# Altium schematic symbol library General.SchLib: 76 symbols
Pins are listed as number, name and electrical type; pins without a type are passive.

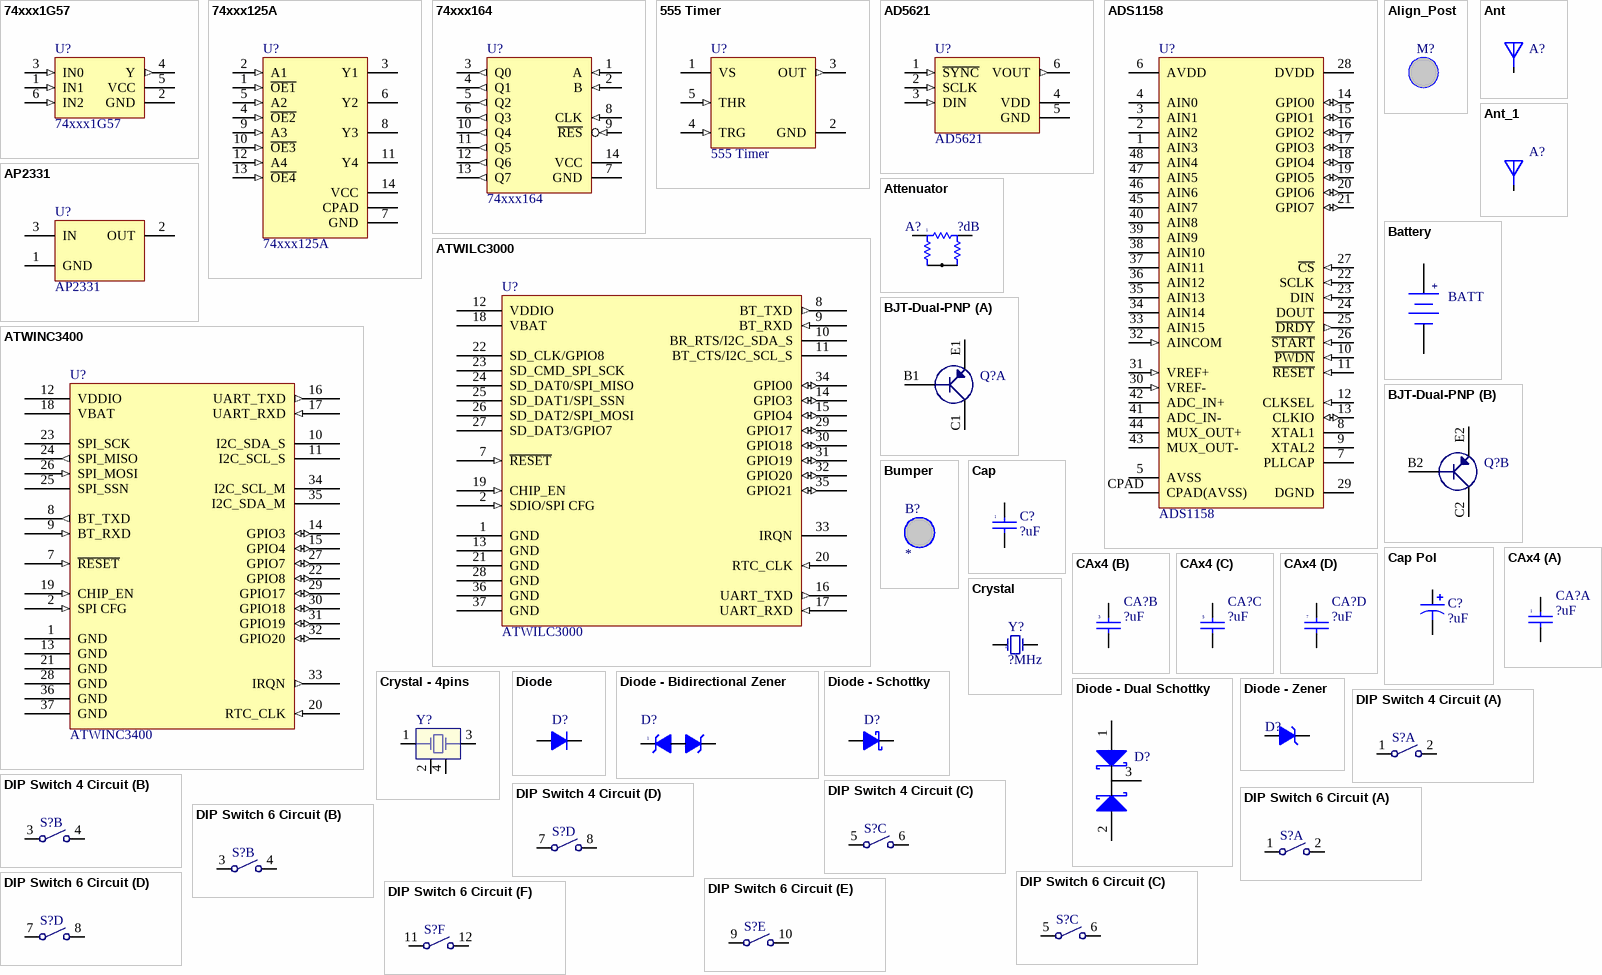
[diagram p0: symbols 74xxx1G57 to DIP Switch 6 Circuit]

## 74xxx1G57
designator U?
Multi Function Gate; Manufacturer: Texas Instruments; Manufacturer Part Number: SN74LVC1G57DCKR; Logic Type: Configurable Multiple Function; Number of Circuits: 1; Number of Inputs: 3; Schmitt Trigger Input: Yes; Output Type: Single-Ended; Current - Output High, Low: 32mA, 32mA; Voltage - Supply: 1.65 V ~ 5.5 V; Supplier 1: Digi-Key; Supplier Part Number 1: 296-15575-1-ND; RoHS: RoHS Compliant; Category: Integrated Circuits (ICs); Stock 1: 0; Pricing 1: 1=0.44, 25=0.2852, 100=0.234, 250=0.195, 500=0.162, 1000=0.12 (USD); Operating Temperature: -40°C ~ 85°C; Mounting Type: Surface Mount; Package / Case: SC-70-6, SC-88, SOT-323-6, SOT-363; Packaging: Cut Tape (CT); ComponentLink1URL: http://focus.ti.com/lit/ds/symlink/sn74lvc1g57.pdf; ComponentLink1Description: http://focus.ti.com/lit/ds/symlink/sn74lvc1g57.pdf
footprint SC-70-6
pins: 1 IN1 (in), 2 GND (power), 3 IN0 (in), 4 Y (out), 5 VCC (power), 6 IN2 (in)

## 74xxx125A
designator U?
Quad Tri-State Line Buffer; Manufacturer: NXP Semiconductors; Manufacturer Part Number: 74LVC125ABQ,115; Logic Type: Buffer/Line Driver, Non-Inverting; Number of Elements: 4 - Quad; Number of Bits per Element: 1; Current - Output High, Low: 24mA, 24mA; Voltage - Supply: 2.7 V ~ 3.6 V; Supplier 1: Digi-Key; Supplier Part Number 1: 568-2995-1-ND; RoHS: RoHS Compliant; Category: Integrated Circuits (ICs); Stock 1: 3768; Pricing 1: 1=0.94, 25=0.7076, 100=0.5306, 250=0.39144, 500=0.33012, 1000=0.31361 (USD); Operating Temperature: -40°C ~ 125°C; Mounting Type: Surface Mount; Package / Case: 14-DHVQFN; Packaging: Cut Tape (CT); ComponentLink1URL: http://www.nxp.com/documents/data_sheet/74LVC125A.pdf; ComponentLink1Description: http://www.nxp.com/documents/data_sheet/74LVC125A.pdf
footprint DHVQFN-14
pins: 1 ~{OE1} (in), 2 A1 (in), 3 Y1 (hiz), 4 ~{OE2} (in), 5 A2 (in), 6 Y2 (hiz), 7 GND (power), 8 Y3 (hiz), 9 A3 (in), 10 ~{OE3} (in), 11 Y4 (hiz), 12 A4 (in), 13 ~{OE4} (in), 14 VCC (power), CPAD (power)

## 74xxx164
designator U?
8 Bit Shift Register; Manufacturer: NXP Semiconductors; Manufacturer Part Number: 74HCT164BQ,115; Output Type: Standard; Number of Elements: 1 - Single; Number of Bits per Element: 8; Function: Serial to Parallel; Voltage - Supply: 4.5 V ~ 6 V; Supplier 1: Digi-Key; Supplier Part Number 1: 568-2790-1-ND; RoHS: RoHS Compliant; Category: Integrated Circuits (ICs); Stock 1: 2604; Pricing 1: 1=0.56, 25=0.42, 100=0.315, 250=0.2324, 500=0.196, 1000=0.1862 (USD); Logic Type: Shift Register; Operating Temperature: -40°C ~ 125°C; Mounting Type: Surface Mount; Package / Case: 14-DHVQFN; Packaging: Cut Tape (CT); ComponentLink1URL: http://www.nxp.com/documents/data_sheet/74HC_HCT164.pdf; ComponentLink1Description: http://www.nxp.com/documents/data_sheet/74HC_HCT164.pdf
footprint DHVQFN-14
pins: 1 A (in), 2 B (in), 3 Q0 (out), 4 Q1 (out), 5 Q2 (out), 6 Q3 (out), 7 GND (power), 8 CLK (in), 9 ~{RES} (in), 10 Q4 (out), 11 Q5 (out), 12 Q6 (out), 13 Q7 (out), 14 VCC (power)

## 555 Timer
designator U?
footprint SOT-23-5
pins: 1 VS (power), 2 GND (power), 3 OUT (out), 4 TRG (in), 5 THR (in)

## AD5621
designator U?
12bit DAC; Manufacturer: Analog Devices Inc; Manufacturer Part Number: AD5621AKSZ-REEL7; Settling Time: 6µs; Number of Bits: 12; Data Interface: SPI™; Number of Converters: 1; Voltage Supply Source: Single Supply; Power Dissipation (Max): 0.5mW; Number of Outputs and Type: 1 Voltage, Unipolar; 1 Voltage, Bipolar; Supplier 1: Digi-Key; Supplier Part Number 1: AD5621AKSZ-REEL7CT-ND; RoHS: RoHS Compliant; Category: Integrated Circuits (ICs); Stock 1: 2370; Pricing 1: 1=2.95, 25=2.358, 100=1.834, 250=1.74232, 500=1.703, 1000=1.67025 (USD); Operating Temperature: -40°C ~ 125°C; Package / Case: SC-70-6, SC-88, SOT-323-6, SOT-363; Packaging: Cut Tape (CT); ComponentLink1URL: http://www.analog.com/static/imported-files/data_sheets/AD5601_5611_5621.pdf; ComponentLink1Description: http://www.analog.com/static/imported-files/data_sheets/AD5601_5611_5621.pdf
footprint SC-70-6
pins: 1 ~{SYNC} (in), 2 SCLK (in), 3 DIN (in), 4 VDD (power), 5 GND (power), 6 VOUT (out)

## ADS1158
designator U?
Analog Devices ADC 16/24bit; Manufacturer: Texas Instruments; Manufacturer Part Number: ADS1158IRTCT; Number of Bits: 16; Sampling Rate (Per Second): 125k; Data Interface: Serial; Number of Converters: 1; Power Dissipation (Max): 62mW; Voltage Supply Source: Analog and Digital, Dual ±; Number of Inputs and Type: 16 Single-Ended, Unipolar; 16 Single-Ended, Bipolar; 8 Differential, Unipolar; 8 Differential, Bipolar; Supplier 1: Digi-Key; Supplier Part Number 1: 296-23494-1-ND; RoHS: RoHS Compliant; Category: Integrated Circuits (ICs); Stock 1: 184; Pricing 1: 1=15.07, 25=12.7724, 100=11.79 (USD); Operating Temperature: -40°C ~ 105°C; Package / Case: 48-VQFN; Packaging: Cut Tape (CT); ComponentLink1URL: http://focus.ti.com/lit/ds/symlink/ads1158.pdf; ComponentLink1Description: http://focus.ti.com/lit/ds/symlink/ads1158.pdf
footprint QFN-48
pins: 1 AIN3, 2 AIN2, 3 AIN1, 4 AIN0, 5 AVSS (power), 6 AVDD (power), 7 PLLCAP, 8 XTAL1, 9 XTAL2, 10 ~{PWDN} (in), 11 ~{RESET} (in), 12 CLKSEL (in), 13 CLKIO (io), 14 GPIO0 (io), 15 GPIO1 (io), 16 GPIO2 (io), 17 GPIO3 (io), 18 GPIO4 (io), 19 GPIO5 (io), 20 GPIO6 (io), 21 GPIO7 (io), 22 SCLK (in), 23 DIN (in), 24 DOUT, 25 ~{DRDY} (out), 26 ~{START} (in), 27 ~{CS} (in), 28 DVDD (power), 29 DGND (power), 30 VREF- (in), 31 VREF+ (in), 32 AINCOM (in), 33 AIN15, 34 AIN14, 35 AIN13, 36 AIN12, 37 AIN11, 38 AIN10, 39 AIN9, 40 AIN8, 41 ADC_IN-, 42 ADC_IN+, 43 MUX_OUT-, 44 MUX_OUT+, 45 AIN7, 46 AIN6, 47 AIN5, 48 AIN4, CPAD CPAD(AVSS) (power)

## Align_Post
designator M?  (value not drawn)
Alignment Post; Supplier Part Number 1: ?; Supplier 1: ?
footprint Align Post 31.25mil dia (Aignment Post 31.25mil dia.)

## Ant
designator A?  (value not drawn)
Manufacturer Part Number 1: KSA-ST1580MS25B; Manufacturer 1: Sangshin; Supplier Part Number 1: KSA-ST1580MS25B; Supplier 1: RFMW; Supplier Unit Price 1: 10
footprint KSA-ST1580MS25B (25mm 1580MHz 5dBi GPS patch antenna)
pins: 1

## Ant_1
designator A?  (value not drawn)
Sarantel; Manufacturer Part Number 1: GeoHelix-S; Supplier 1: Jim Gray; Manufacturer 1: Sarantel; Supplier Part Number 1: GeoHelix-S; Supplier Unit Price 1: 25
footprint GeoHelix-S (Sarantel GPS antenna); pin to pad 1>RF_OUT
pins: 1, GND1 (power) hidden to GND "GND", GND2 (power) hidden to GND "GND", GND3 (power) hidden to GND "GND", GND4 (power) hidden to GND "GND"

## AP2331
designator U?
footprint SOT-23
pins: 1 GND (power), 2 OUT (power), 3 IN (power)

## Attenuator
designator A?  value ?dB  (hidden comment: Attenuator)
footprint A0805 (Attenuator SMT, 4 PIN)
pins: 1, 2, 3

## ATWILC3000
designator U?
footprint ATWILC3000 (IEEE 802.11 b/g/n 20MHz (1x1) Wi-Fi plus Bluetooth 5 Low Energy Module)
pins: 1 GND (power), 2 SDIO/SPI CFG (in), 7 ~{RESET} (in), 8 BT_TXD (out), 9 BT_RXD (in), 10 BR_RTS/I2C_SDA_S, 11 BT_CTS/I2C_SCL_S, 12 VDDIO (power), 13 GND (power), 14 GPIO3 (io), 15 GPIO4 (io), 16 UART_TXD (out), 17 UART_RXD (in), 18 VBAT (power), 19 CHIP_EN (in), 20 RTC_CLK (in), 21 GND (power), 22 SD_CLK/GPIO8, 23 SD_CMD_SPI_SCK, 24 SD_DAT0/SPI_MISO, 25 SD_DAT1/SPI_SSN, 26 SD_DAT2/SPI_MOSI, 27 SD_DAT3/GPIO7, 28 GND (power), 29 GPIO17 (io), 30 GPIO18 (io), 31 GPIO19 (io), 32 GPIO20 (io), 33 IRQN, 34 GPIO0 (io), 35 GPIO21 (io), 36 GND (power), 37 GND (power)

## ATWINC3400
designator U?
footprint ATWILC3000 (IEEE 802.11 b/g/n 20MHz (1x1) Wi-Fi plus Bluetooth 5 Low Energy Module)
pins: 1 GND (power), 2 SPI CFG (in), 7 ~{RESET} (in), 8 BT_TXD (out), 9 BT_RXD (in), 10 I2C_SDA_S, 11 I2C_SCL_S, 12 VDDIO (power), 13 GND (power), 14 GPIO3 (io), 15 GPIO4 (io), 16 UART_TXD (out), 17 UART_RXD (in), 18 VBAT (power), 19 CHIP_EN (in), 20 RTC_CLK (in), 21 GND (power), 22 GPIO8 (io), 23 SPI_SCK, 24 SPI_MISO (out), 25 SPI_SSN, 26 SPI_MOSI (in), 27 GPIO7 (io), 28 GND (power), 29 GPIO17 (io), 30 GPIO18 (io), 31 GPIO19 (io), 32 GPIO20 (io), 33 IRQN (out), 34 I2C_SCL_M, 35 I2C_SDA_M, 36 GND (power), 37 GND (power)

## Battery
designator BATT  (value not drawn)
Manufacturer: Panasonic - BSG; Manufacturer Part Number: ML-614S/FN; Battery Cell Size: Coin 6.8mm; Voltage - Rated: 3V; Capacity: 3.4mAh; Rechargeability: Yes; Shipping Info: Due to possible restrictions, a change in ship method may be required.; Supplier 1: Digi-Key; RoHS: RoHS compliant by exemption; Category: Batteries; Stock 1: 13664; Pricing 1: 1=2.03, 10=1.823, 50=1.62, 100=1.4175, 250=1.296, 500=1.215, 1000=1.11375, 2500=1.03275, 5000=1.0125 (USD); Termination Style: Surface Mount (SMD,SMT); Size / Dimension: 0.27" Dia x 0.06" H (6.8mm x 1.5mm); ComponentLink1URL: http://www.panasonic.com/industrial/battery/oem/images/pdf/Panasonic_Lithium_ML612S_ML614S.pdf; ComponentLink1Description: http://www.panasonic.com/industrial/battery/oem/images/pdf/Panasonic_Lithium_ML612S_ML614S.pdf; Supplier Part Number 1: P297-ND
footprint ML614S (3.3V Coin Cell Battery)
footprint MS621FE
pins: +, -

## BJT-Dual-PNP
designator Q?  (value not drawn)
footprint SOT-26 (SOT26, 6-Leads, Body 3.00x2.85mm, Pitch 0.95mm, IPC Medium Density); pin to pad B1>2 B2>5 C1>6 C2>3 E1>1 E2>4
footprint SOT-666 (SOTFL, 6-Leads, Body 1.60x1.60mm, Pitch 0.50mm, IPC Medium Density); pin to pad B1>2 B2>5 C1>6 C2>3 E1>1 E2>4
part A pins: B1, C1, E1
part B pins: B2, C2, E2

## Bumper
designator B?
footprint Poly Bumper - 5/16" Dia., 7/64" Tall

## Cap
designator C?  value ?uF
Capacitor; Published: 8-Jun-2000; LatestRevisionDate: 17-Jul-2002; LatestRevisionNote: Re-released for DXP Platform.; Publisher: Altium Limited; Category: Capacitors
simulation model CAP (Capacitor)
signal-integrity model Cap
footprint 0201
footprint 0402
footprint 0603
footprint 0805
footprint 1206
footprint 1812
pins: 1, 2

## Cap Pol
designator C?  value ?uF  (hidden comment: Cap Pol)
Polarized Capacitor
simulation model CAP (Capacitor)
signal-integrity model Cap Pol
footprint EIA-3216; pin to pad 1>POS 2>NEG
footprint EIA-6032; pin to pad 1>POS 2>NEG
pins: 1, 2
1 alternate drawing of the same symbol

## CAx4
designator CA?  value ?uF
Capacitor; Published: 8-Jun-2000; LatestRevisionDate: 17-Jul-2002; LatestRevisionNote: Re-released for DXP Platform.; Publisher: Altium Limited; Category: Capacitors
simulation model CAP (Capacitor)
signal-integrity model Cap
footprint SOJ50P120X60-8N (SOJ, 8-Leads, Body 2.0x1.3mm (max), Pitch 0.50mm, IPC Medium Density)
part A pins: 1, 2
part B pins: 3, 4
part C pins: 5, 6
part D pins: 7, 8

## Crystal
designator Y?  value ?MHz  (hidden comment: *)
Crystal
footprint 3.2mmx1.5mm
footprint ECX-64A; pin to pad 1>P$1 2>P$2
footprint CRYMP2012X06L (Molded Crystal, 2-Leads, Body 2.00x1.20mm, IPC High Density)
footprint DFN90P160X50-2N (DFN, 2-Leads, Body 1.00x1.60mm, Pitch 0.90mm, IPC Medium Density)
pins: 1, 2

## Crystal - 4pins
designator Y?  (value not drawn)
footprint AMB11_2.0x1.6 (QFN, 8-Leads, Body 2.00x1.60mm, Pitch 0.50mm, Thermal Pad 0.15x1.60mm, IPC High Density)
footprint CRYSTAL_3.2_x_2.5
footprint ABM10_2.5_x_2.0 (Cristal, 4-Pins, Body 2.50x2.00mm)
pins: 1, 2, 3, 4

## Diode
designator D?  (value not drawn)
Standard Diode
footprint S-MINI-2P
simulation model DIODE (Default Diode)
footprint D0603 (Molded Diode, 2-Leads, Body 1.60x0.80mm, IPC Medium Density)
pins: A, C

## Diode - Bidirectional Zener
designator D?  (value not drawn)
Bidirectional Zener Diode
footprint R0201
footprint D0201 (DFN, 2-Leads, Body 0.30x0.60mm, Pitch 0.35mm, IPC Medium Density)
footprint D0603 (Molded Diode, 2-Leads, Body 1.60x0.80mm, IPC Medium Density)
footprint R0402
pins: 1, 2

## Diode - Dual Schottky
designator D?
Dual Schottky Diode; Supplier 1: ?; Supplier Part Number 1: ?
footprint SOT-23
footprint SOT1061X65-3N (SOT1061, 3-Leads, Body 2.1x2.3mm (max), Pitch 0.65mm, IPC Medium Density)
pins: 1 A, 2 A, 3 C

## Diode - Schottky
designator D?  (value not drawn)
Schottky Diode
footprint S-MINI-2P
footprint PowerDI-123
footprint SSS-MINI-2P
simulation model SKYDIODE (Default Diode)
footprint SOD-123 (Molded Diode, 2-Leads, Body 2.7x1.5mm, IPC Medium Density)
footprint SOD-323 (SOD-323, 2-Leads, Body 1.25x2.50mm, IPC Medium Density)
footprint D0603B (Molded Diode, 2-Leads, Body 1.60x0.80mm, IPC Medium Density)
footprint D0603
footprint D0402
footprint SOD-128 (SOD-128 FL, 2-Leads, Body 2.50x4.70mm, IPC Medium Density)
pins: A, C

## Diode - Zener
designator D?  (value not drawn)
Zener Diode
footprint SOD-123 (Molded Diode, 2-Leads, Body 2.7x1.5mm, IPC Medium Density)
pins: A, C

## DIP Switch 4 Circuit
designator S?, comment Dip Switch 4 Circuits  (value not drawn)
footprint CHS-04TA (SWITCH SLIDE DIP SPST 100MA 6V)
part A pins: 1, 2
part B pins: 3, 4
part C pins: 5, 6
part D pins: 7, 8

## DIP Switch 6 Circuit
designator S?, comment Dip Switch 6 Circuits  (value not drawn)
footprint CHS-06TA (SWITCH SLIDE DIP SPST 100MA 6V)
part A pins: 1, 2
part B pins: 3, 4
part C pins: 5, 6
part D pins: 7, 8
part E pins: 9, 10
part F pins: 11, 12

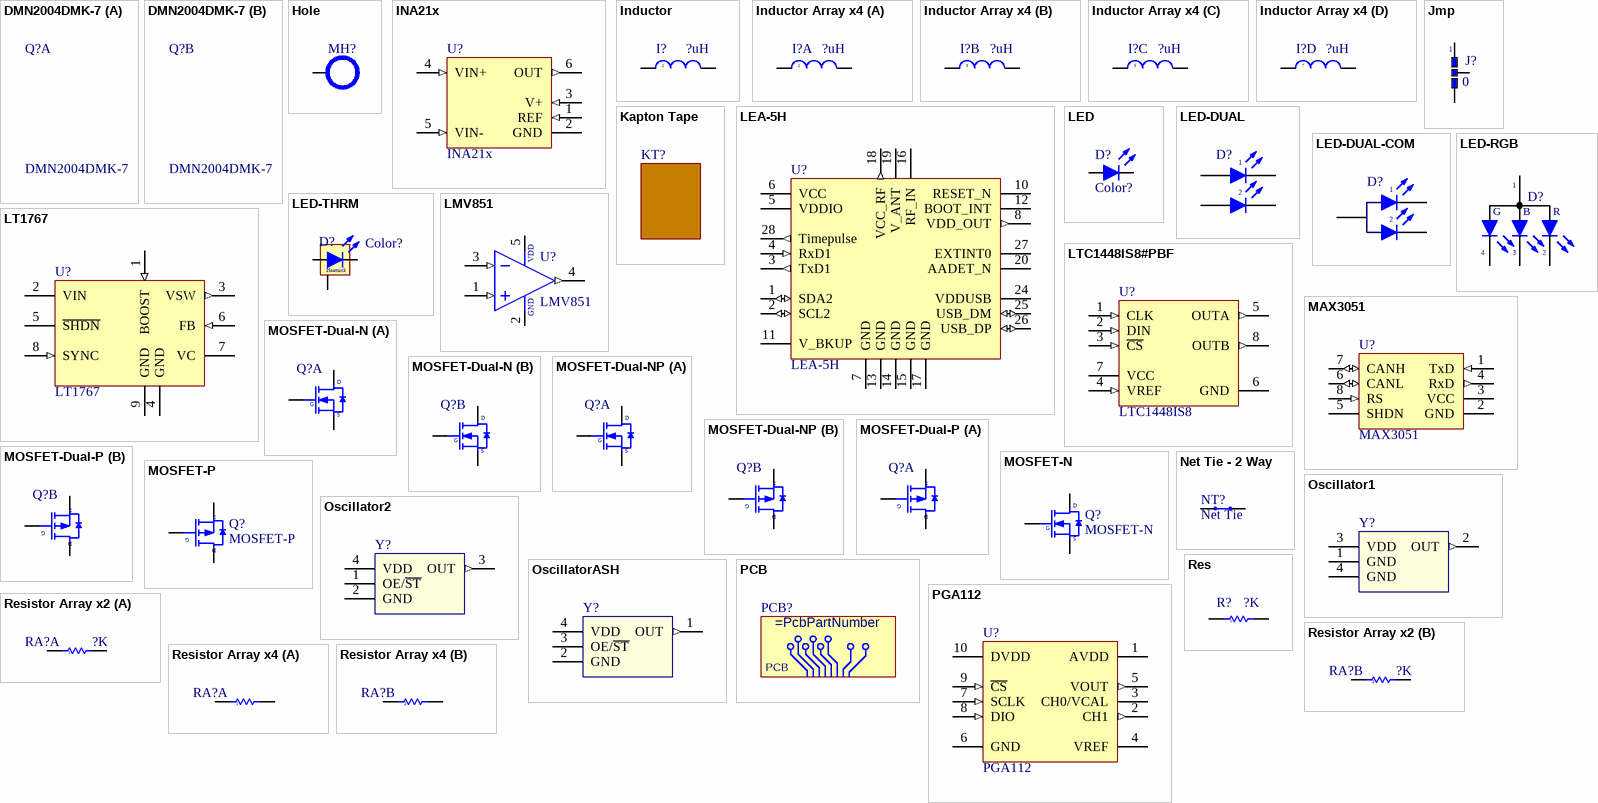
[diagram p1: symbols DMN2004DMK-7 to Resistor Array x4]

## DMN2004DMK-7
designator Q?
footprint SOT-26 (SOT26, 6-Leads, Body 3.00x2.85mm, Pitch 0.95mm, IPC Medium Density)

## Hole
designator MH?  (value not drawn)  (no BOM)
footprint Hole 120mil dia w/ standoff
footprint Hole 120mil dia
footprint Hole_2.75mm
footprint HOLE_M2.0_STAND_ 9774030243R (Solder-in M2.0 standoff, threaded.  9774030243R)
pins: 0

## INA21x
designator U?
Current Shunt Monitor
footprint SC-70-6
pins: 1 REF (in), 2 GND (power), 3 V+ (in), 4 VIN+ (in), 5 VIN- (in), 6 OUT (out)

## Inductor
designator I?  value ?uH
Inductor
footprint 5mmx5mm
footprint P1330
footprint P1812
footprint INDC3030X12N (Chip Inductor, 2-Leads, Body 3.0x3.0mm, IPC Medium Density)
footprint INDC2520X12N (Chip Inductor, 2-Leads, Body 2.5x2.0mm, IPC Medium Density)
footprint INDM102102X50N (Molded Inductor, 2-Leads, Body 10.20x10.20mm, IPC Medium Density)
footprint INDM5552X30N (Molded Inductor, 2-Leads, Body 5.49x5.18mm, IPC Medium Density)
footprint 0201
footprint 0402
footprint 0603
footprint 0805
footprint 1206
footprint 0806
footprint 1210 (Chip Capacitor, 2-Leads, Body 3.2x2.5mm, IPC Medium Density)
footprint INDP5050X22N (Precision Wire Wound Inductor, 2-Leads, Body 5.00x5.00mm, IPC Medium Density)
pins: 1, 2

## Inductor Array x4
designator I?  value ?uH
Inductor
footprint I1206_4xArray
part A pins: 1, 2
part B pins: 3, 4
part C pins: 5, 6
part D pins: 7, 8

## Jmp
designator J?  value 0
Jumper
simulation model RES (Resistor)
signal-integrity model Res
footprint J0603 (Jumper)
footprint J0402 (Jumper)
footprint J0402b (Jumper - Pos 2)
footprint J0603b (Jumper - Pos 2)
pins: 1, 2, 3

## Kapton Tape
designator KT?, comment Polyimide Tape  (value not drawn)
Polyimide Film tape
footprint KaptonSpacer_0.25mm (Kapton Tape 6.35 x 10.0 x 0.25 mm (3 layers of 0.08mm thick))

## LEA-5H
designator U?
Progr. u-blox 5 GPS Module, with KickStart; Supplier 1: uBlox; Supplier Part Number 1: LEA-5H; Supplier Unit Price 1: 119
footprint LEA-5H (uBlox GPS module)
pins: 1 SDA2 (io), 2 SCL2 (io), 3 TxD1 (out), 4 RxD1 (in), 5 VDDIO (power), 6 VCC (power), 7 GND (power), 8 VDD_OUT (out), 10 RESET_N, 11 V_BKUP, 12 BOOT_INT, 13 GND (power), 14 GND (power), 15 GND (power), 16 RF_IN, 17 GND (power), 18 VCC_RF (out), 19 V_ANT, 20 AADET_N "Active Antenna Detect", 24 VDDUSB, 25 USB_DM (io), 26 USB_DP (io), 27 EXTINT0, 28 Timepulse (out)

## LED
designator D?  value Color?  (hidden comment: LED)
footprint L0603 (LED)
footprint L1206 (LED)
simulation model LED0 (Typ INFRARED GaAs LED: Vf=1.2V Vr=5V If=40mA trr=3uS)
pins: A, C

## LED-DUAL
designator D?  (value not drawn)
Dual LED; Published: 8-Jun-2000; LatestRevisionDate: 08-Jul-2005; LatestRevisionNote: Mech Layer 1 removed.; PackageReference: LED-0; Publisher: Altium Limited
footprint LED0606
pins: 1A, 1C, 2A, 2C
text: 1; 2

## LED-DUAL-COM
designator D?, comment LED-DUAL  (value not drawn)
Dual LED; Published: 8-Jun-2000; LatestRevisionDate: 08-Jul-2005; LatestRevisionNote: Mech Layer 1 removed.; PackageReference: LED-0; Publisher: Altium Limited
footprint APBA3010SURKCGKC-GX (LED GREEN/RED CLEAR CHIP SMD R/A)
pins: 1, 2, C

## LED-RGB
designator D?  (value not drawn)
Dual LED; Published: 8-Jun-2000; LatestRevisionDate: 08-Jul-2005; LatestRevisionNote: Mech Layer 1 removed.; PackageReference: LED-0; Publisher: Altium Limited
footprint LED0404 (Multi-color 1mm x 1mm LED)
pins: 1, 2, 3, 4
text: G; B; R

## LED-THRM
designator D?  value Color?  (hidden comment: LED-THRM)
LED
simulation model LED0 (Typ INFRARED GaAs LED: Vf=1.2V Vr=5V If=40mA trr=3uS)
footprint L5x5mm (LED 5x5 mm SMD)
pins: 0, A, C
text: Heatsink

## LMV851
designator U?
Op Amp; Manufacturer: National Semiconductor; Manufacturer Part Number: LMV851MG/NOPB; Amplifier Type: General Purpose; Number of Circuits: 1; Output Type: Rail-to-Rail; Slew Rate: 4.5 V/µs; Gain Bandwidth Product: 8MHz; Current - Input Bias: 0.1pA; Voltage - Input Offset: 260µV; Current - Supply: 430µA; Current - Output / Channel: 65mA; Voltage - Supply, Single/Dual (±): 2.7 V ~ 5.5 V, ±1.35 V ~ 2.75 V; Op Amp Type: CMOS; Bandwidth: 8; Supply Voltage Range: 2.7V to 5.5; Amplifier Case Style: SC-70; No. of Pins: 5; Supplier 1: Digi-Key; Supplier Part Number 1: LMV851MGCT-ND; RoHS: RoHS Compliant; Category: Integrated Circuits (ICs); Stock 1: 870; Pricing 1: 1=1.86, 25=1.3776, 100=1.0183, 250=0.80864, 500=0.7787 (USD); -3db Bandwidth: -; Operating Temperature: -40°C ~ 125°C; Package / Case: SC-70-5, SC-88A, SOT-323-5, SOT-353, 5-TSSOP; Packaging: Cut Tape (CT); ComponentLink1URL: http://cache.national.com/ds/LM/LMV851.pdf; ComponentLink1Description: http://cache.national.com/ds/LM/LMV851.pdf; Supplier 2: Newark; Supplier Part Number 2: 64M6923; Stock 2: 456; Pricing 2: 1=1.77, 25=1.38, 100=1.02, 250=0.809, 500=0.779, 1000=0.767, 5000=0.731, 5000=0.719 (USD); No. of Amplifiers: 1; ComponentLink2URL: http://www.national.com/ds/LM/LMV851.pdf?; ComponentLink2Description: http://www.national.com/ds/LM/LMV851.pdf?
footprint SC-70-5
pins: 1 + (in), 2 GND (power), 3 - (in), 4 OUT (out), 5 VCC (power)
text: VDD

## LT1767
designator U?
Step-Down Switching Regulator
footprint MSOP-8_MS83
pins: 1 BOOST (in), 2 VIN (power), 3 VSW (out), 4 GND (power), 5 ~{SHDN}, 6 FB (in), 7 VC (power), 8 SYNC (in), 9 GND (power)

## LTC1448IS8#PBF
designator U?, comment LTC1448IS8
DAC - 12BIT R-R DUAL; Manufacturer: Linear Technology; Manufacturer Part Number: LTC1448IS8#PBF; Settling Time: 14µs; Number of Bits: 12; Data Interface: Serial; Number of Converters: 2; Voltage Supply Source: Single; Power Dissipation (Max): 2.5mW; Number of Outputs and Type: 2 Voltage, Unipolar; RoHS: RoHS Compliant; Category: Integrated Circuits (ICs); Operating Temperature: -40°C ~ 85°C; Package / Case: 8-SOIC (3.9mm Width); Packaging: Tube; ComponentLink1URL: http://www.linear.com/pc/downloadDocument.do?navId=H0,C1,C1155,C1005,C1156,P1217,D3168; ComponentLink1Description: http://www.linear.com/pc/downloadDocument.do?navId=H0,C1,C1155,C1005,C1156,P1217,D3168; Supplier 1: Digi-Key; Supplier Part Number 1: LTC1448IS8#PBF-ND; Stock 1: 195; Pricing 1: 1=13.63, 25=9.10, 100=7.45 (USD)
footprint SOIC8
pins: 1 CLK (in), 2 DIN (in), 3 ~{CS} (in), 4 VREF (in), 5 OUTA (out), 6 GND (power), 7 VCC (power), 8 OUTB (out)

## MAX3051
designator U?
Can Tranceiver; Manufacturer: Maxim Integrated Products; Manufacturer Part Number: MAX3051EKA; Number of Drivers/Receivers: 1/1; Voltage - Supply: 3.135 V ~ 3.465 V; Supplier 1: Maxim IC; Supplier Part Number 1: MAX3051EKA; RoHS: RoHS Compliant; Category: Integrated Circuits (ICs); Stock 1: 0; Pricing 1: 2500=1.411 (USD); Type: Transceiver; Protocol: CAN; Package / Case: SOT-23-8; ComponentLink1URL: http://datasheets.maxim-ic.com/en/ds/MAX3051.pdf; ComponentLink1Description: http://datasheets.maxim-ic.com/en/ds/MAX3051.pdf
footprint SOT-23-8
pins: 1 TxD (in), 2 GND (power), 3 VCC (power), 4 RxD (out), 5 SHDN, 6 CANL (io), 7 CANH (io), 8 RS (in)

## MOSFET-Dual-N
designator Q?, comment MOSFET-N  (value not drawn)
Dual N-Channel MOSFET; Value: ?
footprint SOT-363; pin to pad D1>6 D2>3 G1>2 G2>5 S1>1 S2>4
footprint SOT-26 (SOT26, 6-Leads, Body 3.00x2.85mm, Pitch 0.95mm, IPC Medium Density); pin to pad D1>6 D2>3 G1>2 G2>5 S1>1 S2>4
footprint SOT-666 (SOTFL, 6-Leads, Body 1.60x1.60mm, Pitch 0.50mm, IPC Medium Density); pin to pad D1>6 D2>3 G1>2 G2>5 S1>1 S2>4
part A pins: D1 D, G1 G, S1 S
part B pins: D2 D, G2 G, S2 S

## MOSFET-Dual-NP
designator Q?, comment MOSFET-NP  (value not drawn)
Dual N/P-Channel MOSFET
footprint SOT-363; pin to pad D1>6 D2>3 G1>2 G2>5 S1>1 S2>4
footprint SOT-666 (SOTFL, 6-Leads, Body 1.60x1.60mm, Pitch 0.50mm, IPC Medium Density); pin to pad D1>6 D2>3 G1>2 G2>5 S1>1 S2>4
part A pins: D1 D, G1 G, S1 S
part B pins: D2 D, G2 G, S2 S

## MOSFET-Dual-P
designator Q?, comment MOSFET-P  (value not drawn)
Dual P-Channel MOSFET
footprint SOT-363; pin to pad D1>6 D2>3 G1>2 G2>5 S1>1 S2>4
footprint SOT-666 (SOTFL, 6-Leads, Body 1.60x1.60mm, Pitch 0.50mm, IPC Medium Density); pin to pad D1>6 D2>3 G1>2 G2>5 S1>1 S2>4
footprint TSST8 (TSST, 8-Leads, Body 3.03x1.63mm, Pitch 0.65mm, IPC Medium Density)
part A pins: D1 D, G1 G, S1 S
part B pins: D2 D, G2 G, S2 S

## MOSFET-N
designator Q?
N-Channel MOSFET
footprint SOT-23; pin to pad D>3 G>1 S>2
simulation model NMOS (Default N-Channel MOSFET)
footprint SOT-523 (SOT523, 3-Leads, Body 1.55x1.60mm, Pitch 0.50mm, IPC Medium Density)
pins: D, G, S

## MOSFET-P
designator Q?
P-Channel MOSFET
simulation model PMOS (MOSFET-P)
footprint SOT-23; pin to pad D>3 G>1 S>2
footprint XFDFN-3 (DFN, 3-Leads, Body 0.60x0.80mm, Pitch 0.65mm, IPC Medium Density)
pins: D, G, S

## Net Tie - 2 Way
designator NT?, comment Net Tie  (net tie, no BOM)
Net Tie - 2 Way
footprint NET TIE (Net Tie)
pins: 1, 2

## Oscillator1
designator Y?  (value not drawn)
Oscillator; value: ?
footprint BGA4C65P2X2_84X154X60 (BGA, 4-Leads, Body 0.84x1.54mmx0.60mm, Pitch 0.65mm)
pins: 1 GND, 2 OUT (out), 3 VDD, 4 GND

## Oscillator2
designator Y?  (value not drawn)
Oscillator; VALUE: ?
footprint ABM10_2.5_x_2.0 (Cristal, 4-Pins, Body 2.50x2.00mm)
footprint SiT1533 (DFN, 2-Leads, Body 1.20x2.00mm, Pitch 1.50mm, IPC Medium Density)
pins: 1 OE/~{ST}, 2 GND, 3 OUT (out), 4 VDD

## OscillatorASH
designator Y?  (value not drawn)
32.768kHz XO (Standard) CMOS Oscillator 1.2 V ~ 5.5 V Enable/Disable 4-SMD, No Lead; VALUE: ?
footprint ASH7KW-32.768KHZ-L-T (Chip Array, Concave, 4-Leads, Pitch 1.50mm,  Body 1.50x3.20mm,  IPC Medium Density)
pins: 1 OUT (out), 2 GND, 3 OE/~{ST}, 4 VDD

## PCB
designator PCB?, comment Circuit Board  (value not drawn)
Printed Circuit Board; Manufacturer: Inertial Sense LLC; Supplier Unit Price 1: ?; Supplier 1: ?; Manufacturer Part Number: =PcbPartNumber
footprint PCB
footprint PCB_PART_NUMBER

## PGA112
designator U?
PGA Op Amp; Manufacturer: Texas Instruments; Manufacturer Part Number: PGA112AIDGST; Amplifier Type: Programmable Gain; Number of Circuits: 1; Output Type: Rail-to-Rail; Slew Rate: 8 V/µs; -3db Bandwidth: 10MHz; Current - Input Bias: 1.5nA; Voltage - Input Offset: 75µV; Current - Supply: 330µA; Current - Output / Channel: 60mA; Voltage - Supply, Single/Dual (±): 2.2 V ~ 5.5 V; Supplier 1: Digi-Key; Supplier Part Number 1: 296-23315-1-ND; RoHS: RoHS Compliant; Category: Integrated Circuits (ICs); Stock 1: 0; Pricing 1: 1=3.3, 25=2.6952, 100=2.42 (USD); Gain Bandwidth Product: -; Operating Temperature: -40°C ~ 125°C; Package / Case: 10-MSOP, Micro10™, 10-uMAX, 10-uSOP; Packaging: Cut Tape (CT); ComponentLink1URL: http://focus.ti.com/lit/ds/symlink/pga112.pdf; ComponentLink1Description: http://focus.ti.com/lit/ds/symlink/pga112.pdf
footprint MSOP-10
pins: 1 AVDD (power), 2 CH1 (out), 3 CH0/VCAL, 4 VREF, 5 VOUT (out), 6 GND (power), 7 SCLK (in), 8 DIO (in), 9 ~{CS} (in), 10 DVDD (power)

## Res
designator R?  value ?K
Resistor
simulation model RES (Resistor)
signal-integrity model Res
footprint R0402
footprint R0603
footprint R0805
footprint R1206
footprint R0201
pins: 1, 2

## Resistor Array x2
designator RA?  value ?K
Resistor Array - 4 Element; LatestRevisionDate: 2-Dec-2009
footprint R0402x2
part A pins: 1, 2
part B pins: 3, 4

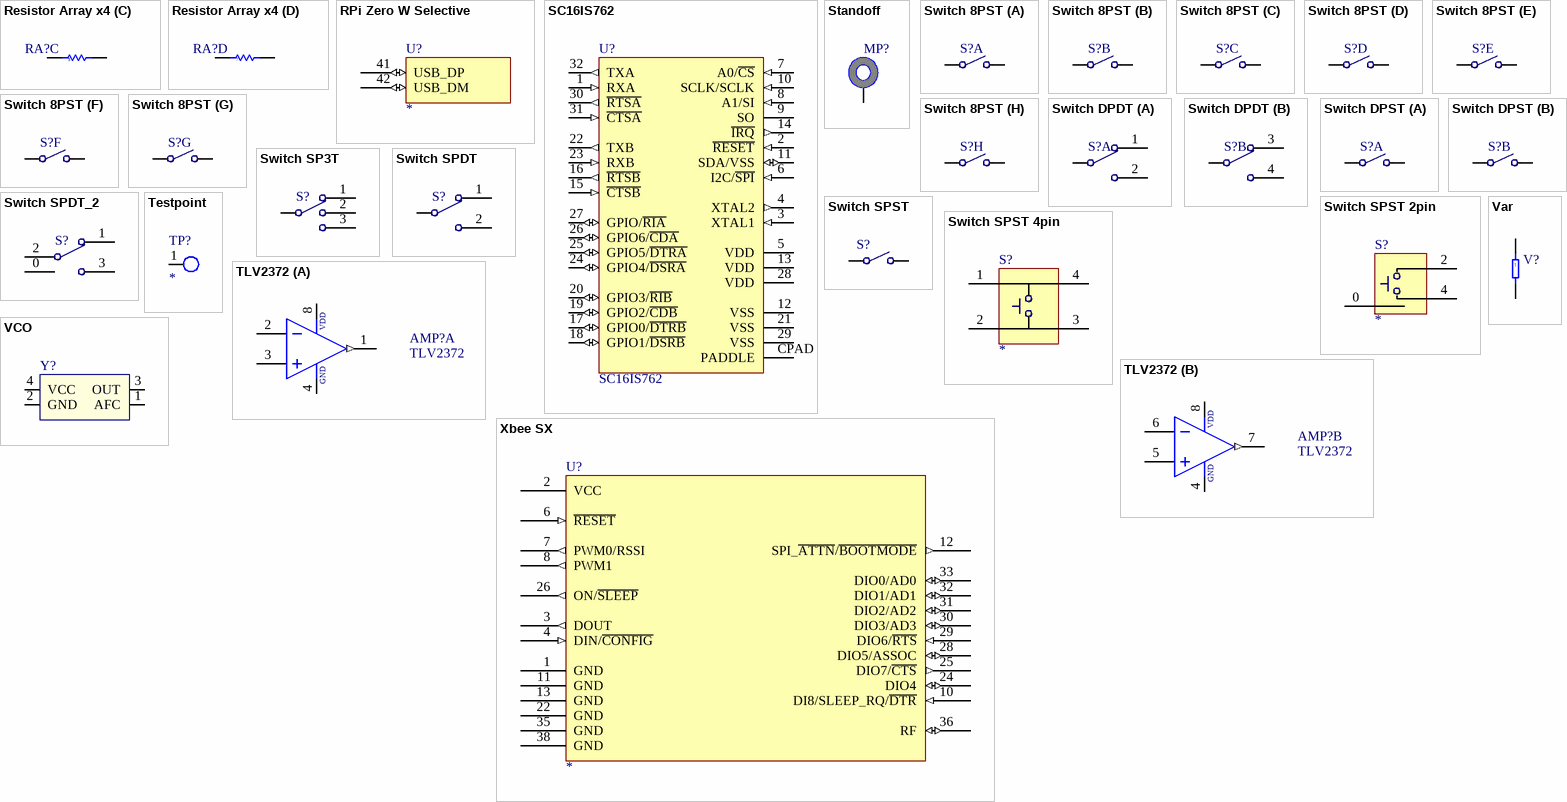
[diagram p2: symbols Resistor Array x4 to Xbee SX]

## Resistor Array x4
designator RA?
Resistor Array - 4 Element; LatestRevisionDate: 2-Dec-2009
footprint R0402x4
footprint R0201x4
part A pins: 1, 2
part B pins: 3, 4
part C pins: 5, 6
part D pins: 7, 8

## RPi Zero W Selective
designator U?
Supplier 1: Digi-Key
footprint Rpi Zero W Selective
pins: 41 USB_DP (io), 42 USB_DM (io)

## SC16IS762
designator U?
SPI 2 Port UART; Manufacturer: NXP Semiconductors; Manufacturer Part Number: SC16IS762IBS151; Number of Channels: 2; Voltage: 2.3 V ~ 3.6 V; FIFO's: 64 Byte; Supplier 1: Digi-Key; Supplier Part Number 1: 568-2240-ND; RoHS: RoHS Compliant; Category: Integrated Circuits (ICs); Stock 1: 1825; Pricing 1: 1=3.00, 25=2.80, 100=2.60, 250=2.55, 500=2.50, 1000=2.47, 5000=2.40 (USD); Features: Low Current; Package / Case: 32-HVQFN; Packaging: Tray; ComponentLink1URL: http://www.standardics.nxp.com/products/sc16/datasheet/sc16is752.sc16is762.pdf; ComponentLink1Description: http://www.standardics.nxp.com/products/sc16/datasheet/sc16is752.sc16is762.pdf
footprint QFN-32
pins: 1 RXA (in), 2 ~{RESET} (in), 3 XTAL1 (in), 4 XTAL2 (out), 5 VDD (power), 6 I2C/~{SPI} (in), 7 A0/~{CS} (in), 8 A1/SI (in), 9 SO (hiz), 10 SCLK/SCLK (in), 11 SDA/VSS (io), 12 VSS (power), 13 VDD (power), 14 ~{IRQ} (out), 15 ~{CTSB} (in), 16 ~{RTSB} (out), 17 GPIO0/~{DTRB} (io), 18 GPIO1/~{DSRB} (io), 19 GPIO2/~{CDB} (io), 20 GPIO3/~{RIB} (io), 21 VSS (power), 22 TXB (out), 23 RXB (in), 24 GPIO4/~{DSRA} (io), 25 GPIO5/~{DTRA} (io), 26 GPIO6/~{CDA} (io), 27 GPIO/~{RIA} (io), 28 VDD (power), 29 VSS (power), 30 ~{RTSA} (out), 31 ~{CTSA} (in), 32 TXA (out), CPAD PADDLE

## Standoff
designator MP?  (value not drawn)
footprint 9774050151R (SMD Standoff 3.8mm dia hole, 5mm height)
pins: 1

## Switch 8PST
designator S?, comment 8PST Switch  (value not drawn)
footprint SOIC127P670X150-16N (SOIC, 16-Leads, Body 11.38x4.50mm, Pitch 1.27mm, IPC Medium Density)
part A pins: 1, 16
part B pins: 2, 15
part C pins: 3, 14
part D pins: 4, 13
part E pins: 5, 12
part F pins: 6, 11
part G pins: 7, 10
part H pins: 8, 9

## Switch DPDT
designator S?, comment DPDT Switch  (value not drawn)
footprint GF-126-0147 (SWITCH SLIDE BRD EDGE DPDT 3A PC MNT)
part A pins: 1, 2, C1
part B pins: 3, 4, C2

## Switch DPST
designator S?, comment DPST Switch  (value not drawn)
footprint GF-126-0147 (SWITCH SLIDE BRD EDGE DPDT 3A PC MNT)
footprint CHS-02TA (SWITCH SLIDE DIP SPST 100MA 6V)
part A pins: 1, 2
part B pins: 3, 4

## Switch SP3T
designator S?, comment SP3T Switch  (value not drawn)
pins: 1, 2, 3, C

## Switch SPDT
designator S?, comment SPDT Switch  (value not drawn)
footprint GF-126-0147 (SWITCH SLIDE BRD EDGE DPDT 3A PC MNT)
pins: 1, 2, C

## Switch SPDT_2
designator S?, comment SPDT Switch  (value not drawn)
footprint 500SSP1S1M6QEA (SWITCH SLIDE SPDT)
pins: 0, 1, 2, 3

## Switch SPST
designator S?, comment SPST Switch  (value not drawn)
footprint EVQ-P3401P (SWITCH TACTILE SPST-NO 0.05A 12V)
footprint CHS-01TA
footprint KMR432G (SWITCH TACTILE SPST-NO 0.05A 32V)
footprint PTS810 (SWITCH TACTILE SPST-NO 0.05A 32V)
pins: 1, 2

## Switch SPST 2pin
designator S?
footprint 5.85x4.38mmTactileSwitch_RA (SOJ, 2-Leads, Body 5.85x4.38mm, Pitch 2.54mm, Right Angle)
pins: 0, 2, 4

## Switch SPST 4pin
designator S?
footprint 6.2x6.2mmTactileSwitch (SOJ, 4-Leads, Body 6.20x6.80mm, Pitch 4.00mm, IPC Medium Density)
pins: 1, 2, 3, 4

## Testpoint
designator TP?
footprint S1751-46R
pins: 1

## TLV2372
designator AMP?
Op Amp; Manufacturer: Texas Instruments; Manufacturer Part Number: TLV2372IDGKR; Amplifier Type: General Purpose; Number of Circuits: 2; Output Type: Rail-to-Rail; Slew Rate: 2.1 V/µs; Gain Bandwidth Product: 3MHz; Current - Input Bias: 1pA; Voltage - Input Offset: 2000µV; Current - Supply: 750µA; Current - Output / Channel: 16mA; Voltage - Supply, Single/Dual (±): 2.7 V ~ 16 V, ±1.35 V ~ 8 V; Published: 8-Jun-2000; LatestRevisionDate: 17-Jul-2002; DatasheetVersion: REV. B; Publisher: Altium Limited; Supplier 1: Digi-Key; Supplier Part Number 1: 296-11623-1-ND; RoHS: RoHS Compliant; Category: Integrated Circuits (ICs); Stock 1: 6238; Pricing 1: 1=1.25, 25=1.00, 100=0.75, 250=0.70, 500=0.675, 1000=0.65 (USD); -3db Bandwidth: -; Operating Temperature: -40°C ~ 125°C; Package / Case: 8-MSOP; Packaging: Cut Tape (CT); ComponentLink1URL: http://focus.ti.com/lit/ds/symlink/tlv2370.pdf; ComponentLink1Description: http://focus.ti.com/lit/ds/symlink/tlv2370.pdf
footprint MSOP-8
pins on every part: 4 GND (power), 8 VCC (power)
part A pins: 1 OUT (out), 2 -, 3 +
part B pins: 5 +, 6 -, 7 OUT (out)
part A text: VDD
part B text: VDD

## Var
designator V?  (value not drawn)
TVS - Varistor, MOVs
footprint R0603
footprint R0402
footprint R0805
footprint R1206
footprint R0201
pins: 1, 2

## VCO
designator Y?  (value not drawn)
footprint VCO160P200X80-4M (VCO, 4-Leads, Body 1.60x2.00mm, Pitch 1.60mm)
footprint VCO120P160X60-4M (VCO, 4-Leads, Body 1.20x1.60mm, Pitch 1.20mm)
pins: 1 AFC, 2 GND, 3 OUT, 4 VCC

## Xbee SX
designator U?
footprint XBP9X-DMUS-001 (XBEE PRO MOD TXRX ISM 915MHZ UFL)
pins: 1 GND (power) "Ground", 2 VCC (power) "Power supply", 3 DOUT (out) "UART data out", 4 DIN/~{CONFIG} (in) "UART data in", 6 ~{RESET} (in) "Module reset (reset pulse must be at least 200 ns). This must be driven as an open drain/collector. The device drives this line low when a reset occurs. Never drive this line high.", 7 PWM0/RSSI (out) "PWM output 0 / RX signal strength indicator", 8 PWM1 (out) "PWM output 1", 10 DI8/SLEEP_RQ/~{DTR} (in) "Pin sleep control line or digital input 8", 11 GND (power) "Ground", 12 SPI_~{ATTN}/~{BOOTMODE} (out) "SPI Attention. Do not tie low on reset.", 13 GND (power) "Ground", 22 GND (power) "Ground", 24 DIO4 (io) "Digital I/O 4", 25 DIO7/~{CTS} (out) "Digital I/O 7 / Clear-to-send flow control", 26 ON/~{SLEEP} (out) "Device sleep status indicator", 28 DIO5/ASSOC (io) "Digital I/O 5 / Associated indicator", 29 DIO6/~{RTS} (in) "Digital I/O 6 / Request-to-send flow control", 30 DIO3/AD3 (io) "Digital I/O 3 / Analog input 3", 31 DIO2/AD2 (io) "Digital I/O 2 / Analog input 2", 32 DIO1/AD1 (io) "Digital I/O 1 / Analog input 1", 33 DIO0/AD0 (io) "Digital I/O 0 / Analog input 0", 35 GND (power) "Ground", 36 RF (io) "RF connection", 38 GND (power) "Ground"